# Altium footprint library C-ALU_C_SIZE.PcbLib: 1 footprints
Each footprint in its own frame and in the unit in brackets; x right, y up, seen from the top. Pads: shape width x height; smd on the part's side, far side on the other; paste and mask are expansions set on the pad; w line width, h text height; cw(c..) or ccw(c..) is an arc to the next point about the centre after c.
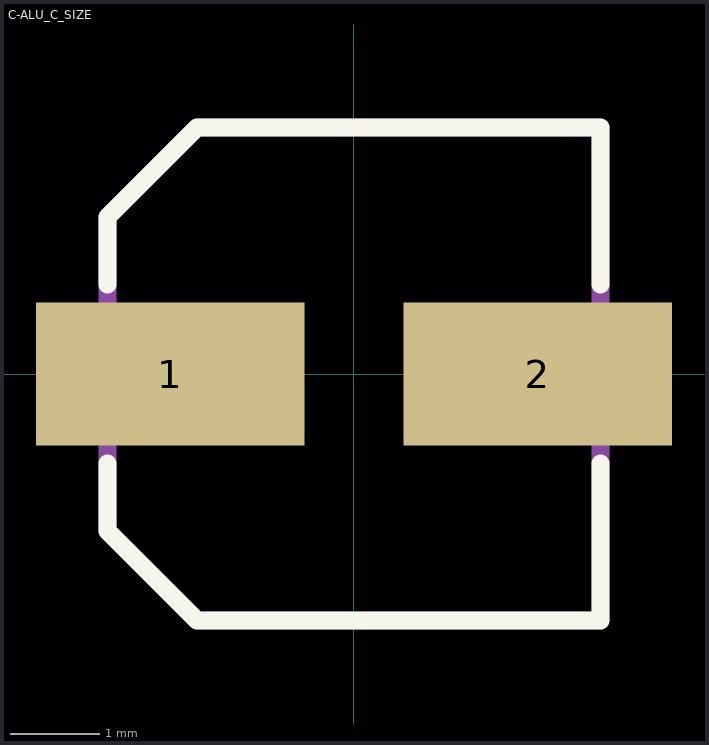
[diagram p0: the footprint, top view; thin cyan lines are the x and y axes]

## C-ALU_C_SIZE [mm]
pads (2):
  rect 3x1.6 smd: 1(-2.05,0) 2(2.05,0)
Top Overlay:
  lines w0.2: -2.75,-1 -2.75,-1.75 -1.75,-2.75 2.75,-2.75 2.75,-1 ; -2.75,1 -2.75,1.75 -1.75,2.75 2.75,2.75 2.75,1
Mechanical 2:
  lines w0.2: -2.75,-1.75 -2.75,-1 -2.75,1 -2.75,1.75 -1.75,2.75 2.75,2.75 2.75,1 2.75,-2.75 -1.75,-2.75 -2.75,-1.75
  text ".Designator" at -0.8,-0.617 h1.3
3D body: height 3.63, standoff -3.63, extent 2.2,0.1 2.2,0.1
3D body: height 5.41, standoff 5.4, extent 1.1,-0.2 2.6,0.3
3D body: height 3.63, standoff -3.63, extent 2.6,0.7 2.6,0.7
3D body: height 3.63, standoff -3.63, extent 3.1,0.1 3.1,0.1
3D body: height 3.63, standoff -3.63, extent 2.7,2.7 2.7,2.7
3D body "User Library-capacitor size C.step": height 5.41, standoff -0.01, extent -2.7,-2.65 3.2,2.65